# EAGLE library part TL7660CDR (library -5v reg)
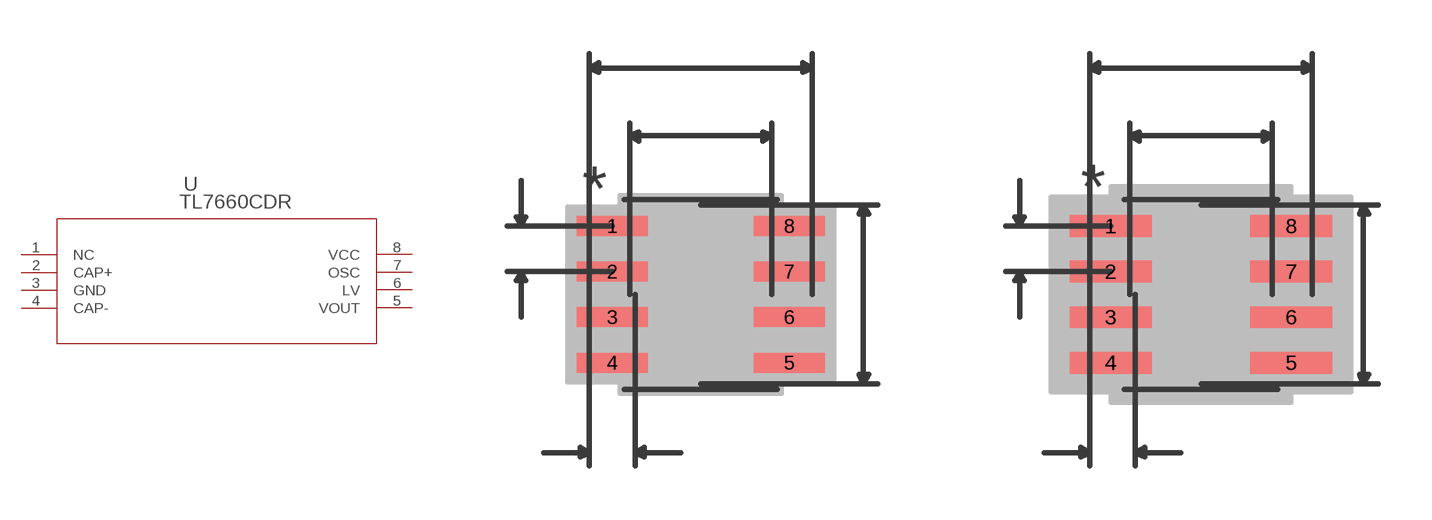
[diagram p0: symbol with the pads of D8; footprints D8, D8-M]

Designator prefix U

## TL7660CDR (MANUFACTURER_PART_NUMBER: TL7660CDR; VENDOR: Texas Instruments)  [D8]
1  NC  pas
2  CAP+  pas
3  GND  pwr
4  CAP-  pas
5  VOUT  out
6  LV  pas
7  OSC  pas
8  VCC  pwr

## TL7660CDRD8-M (MANUFACTURER_PART_NUMBER: TL7660CDR; VENDOR: Texas Instruments)  [D8-M]
Pads as for D8

## TL7660CDRD8-L (MANUFACTURER_PART_NUMBER: TL7660CDR; VENDOR: Texas Instruments)  [D8-L]
Pads as for D8

## Footprint D8 (pad centres in mm)
smd 1.981 x 0.559: 1 -2.464,1.905; 2 -2.464,0.635; 3 -2.464,-0.635; 4 -2.464,-1.905; 5 2.464,-1.905; 6 2.464,-0.635; 7 2.464,0.635; 8 2.464,1.905

## Footprint D8-M (pad centres in mm)
smd 2.286 x 0.61: 1 -2.515,1.905; 2 -2.515,0.635; 3 -2.515,-0.635; 4 -2.515,-1.905; 5 2.515,-1.905; 6 2.515,-0.635; 7 2.515,0.635; 8 2.515,1.905

## Footprint D8-L (pad centres in mm)
smd 1.676 x 0.508: 1 -2.413,1.905; 2 -2.413,0.635; 3 -2.413,-0.635; 4 -2.413,-1.905; 5 2.413,-1.905; 6 2.413,-0.635; 7 2.413,0.635; 8 2.413,1.905